# Altium footprint library SLW-115-01-G-S.PcbLib: 1 footprints
Each footprint in its own frame and in the unit in brackets; x right, y up, seen from the top. Pads: shape width x height; smd on the part's side, far side on the other; paste and mask are expansions set on the pad; w line width, h text height; cw(c..) or ccw(c..) is an arc to the next point about the centre after c.
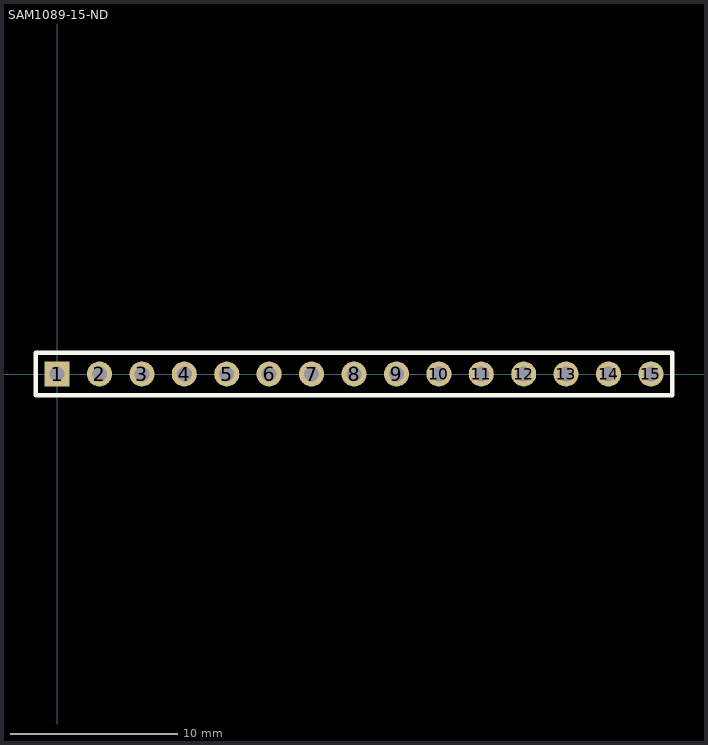
[diagram p0: the footprint, top view; thin cyan lines are the x and y axes]

## SAM1089-15-ND [mm] "15 Position Receptacle Connector 0.100\" (2.54mm) Through Hole Gold"
height 6.09
pads (15):
  rect 1.5x1.5 hole 0.9: 1(0,0)
  round 1.5 hole 0.9: 2(2.54,0) 3(5.08,0) 4(7.62,0) 5(10.16,0) 6(12.7,0) 7(15.24,0) 8(17.78,0) 9(20.32,0) 10(22.86,0) 11(25.4,0) 12(27.94,0) 13(30.48,0) 14(33.02,0) 15(35.56,0)
Top Overlay:
  lines w0.254: -1.27,-1.27 36.83,-1.27 36.83,1.27 -1.27,1.27 -1.27,-1.27
3D body "SLW-115-01-G-S.stp": height 4.57, standoff -2.92, extent -1.27,-1.27 36.83,1.27